# EAGLE library part 74*241 (library 74ttl-din)
Octal BUFFER and LINE DRIVER, 3-state
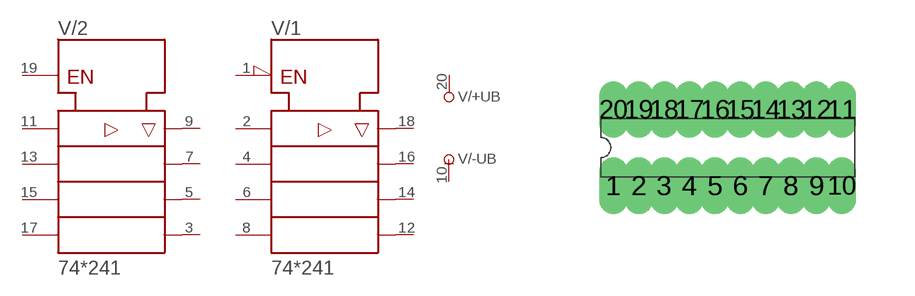
[diagram p69: symbol with the pads of DIL20; footprint DIL20]

Designator prefix V; gates /+UB=+UB /-UB=-UB /1=241_1 /2=241_2

## 74241N  [DIL20]
1  /1:!G  in
2  /1:A1  in
3  /2:Y4  hiz
4  /1:A2  in
5  /2:Y3  hiz
6  /1:A3  in
7  /2:Y2  hiz
8  /1:A4  in
9  /2:Y1  hiz
10  /-UB:-UB  pwr
11  /2:A1  in
12  /1:Y4  hiz
13  /2:A2  in
14  /1:Y3  hiz
15  /2:A3  in
16  /1:Y2  hiz
17  /2:A4  in
18  /1:Y1  hiz
19  /2:G  in
20  /+UB:+UB  pwr

## Footprint DIL20 (pad centres in mm)
Dual In Line Package
drill 0.203 long: 1 -2.857,-0.953; 2 -2.223,-0.953; 3 -1.587,-0.953; 4 -0.953,-0.953; 5 -0.318,-0.953; 6 0.318,-0.953; 7 0.953,-0.953; 8 1.587,-0.953; 9 2.223,-0.953; 10 2.857,-0.953; 11 2.857,0.953; 12 2.223,0.953; 13 1.587,0.953; 14 0.953,0.953; 15 0.318,0.953; 16 -0.318,0.953; 17 -0.953,0.953; 18 -1.587,0.953; 19 -2.223,0.953; 20 -2.857,0.953